# Altium integrated library Linear Technology Power Management Switching Regulator LTC1174-LTC3901.IntLib: 2647 symbols (part 3 of 364)
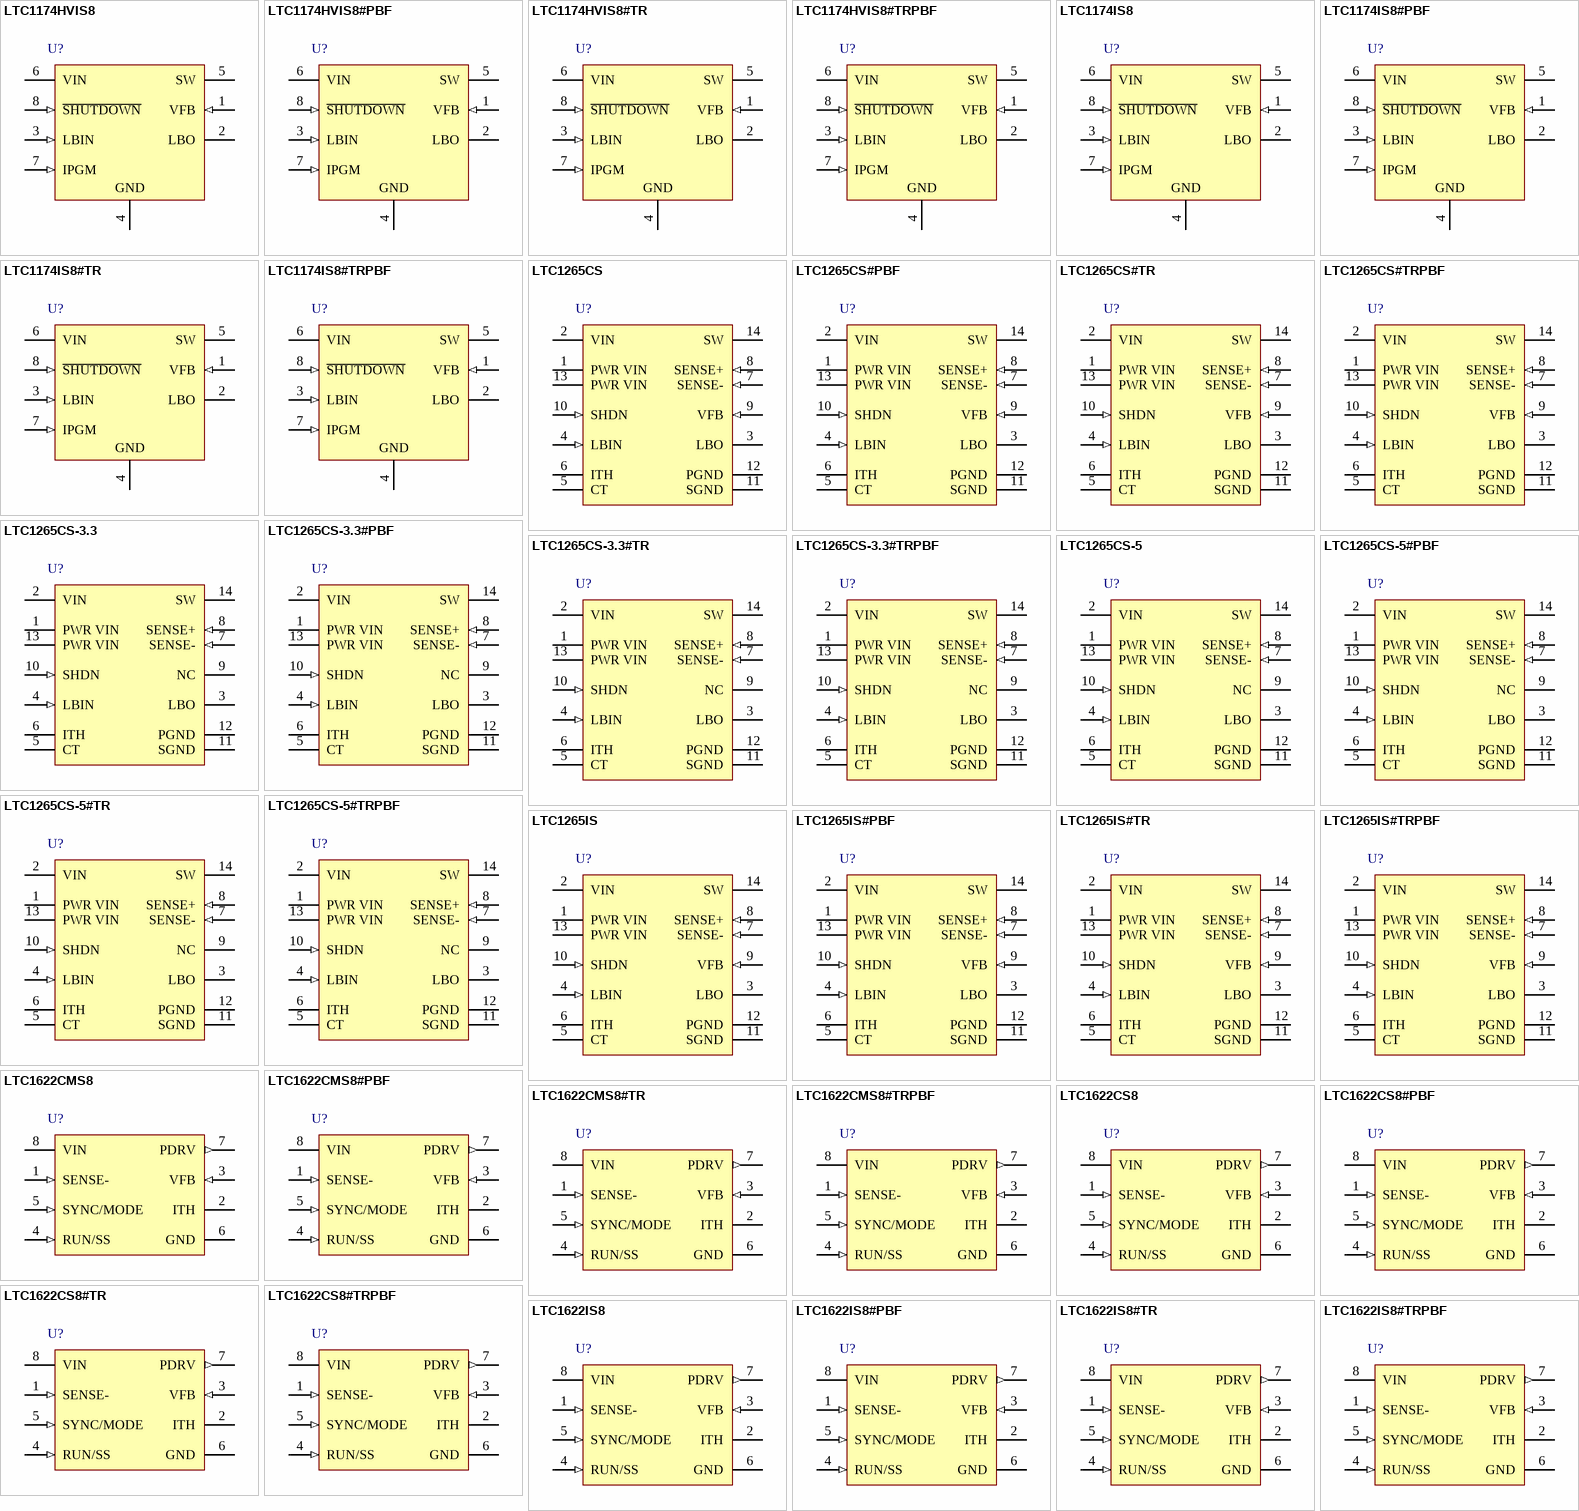
[diagram p117: symbols LTC1174HVIS8 to LTC1622IS8#TRPBF]

## LTC1174HVIS8
designator U?
High Efficiency Step-Down and Inverting DC/DC Converter, 8-pin SOIC (S8-8), -40 to 85 degC; Manufacturer: Linear Technology; PartNumber: LTC1174HVIS8; Number of Outputs: 1; DatasheetVersion: Rev. E; PackageVersion: Rev. G, 03/2012; PackageReference: S8-8; PackageDescription: 8-Pin Plastic Small Outline (Narrow .150 Inch), Body 4.9 x 3.9 mm, Pitch 1.27 mm; Supplier 1: Digi-Key; Supplier Part Number 1: LTC1174HVIS8-ND; Supplier 2: Newark; Supplier Part Number 2: 55M9576; RoHS: FALSE; Mounting Technology: Surface Mount; ComponentLink1Description: Manufacturer URL; ComponentLink1URL: http://www.linear.com/; ComponentLink2Description: Datasheet; ComponentLink2URL: http://cds.linear.com/docs/en/datasheet/1174fe.pdf; ComponentLink3Description: Package Specification; ComponentLink3URL: http://cds.linear.com/docs/en/packaging/05081610_G_SO8.pdf
footprint LT-S8-8_N (SOIC, 8-Leads, Body 5x4mm, Pitch 1.27mm, IPC Medium Density)
footprint LT-S8-8_L (SOIC, 8-Leads, Body 5x4mm, Pitch 1.27mm, IPC High Density)
footprint LT-S8-8_M (SOIC, 8-Leads, Body 5x4mm, Pitch 1.27mm, IPC Low Density)
pins: 1 VFB (in) "For the LTC1174, this pin connects to the main voltage comparator's input.", 2 LBO (oc) "Open Drain of an N-Channel Pull-Down. This pin will sink current when Pin 3 (LBIN) goes below 1.25V. During shutdown the state of this pin is indeterminate.", 3 LBIN (in) "The ??Input of the Low-Battery Voltage Comparator. The ??input is connected to a reference voltage of 1.25V.", 4 GND (power) "Ground Pin.", 5 SW (power) "Drain of the P-Channel MOSFET Switch. Cathode of Schottky diode must be closely connected to this pin.", 6 VIN (power) "Input Supply Voltage. It must be decoupled close to ground Pin 4.", 7 IPGM (in) "Selects the Current Limit of the P-Channel Switch. With IPGM = VIN, the current trip point is 600mA and with IPGM = 0V, the current trip value is reduced to 340mA.", 8 ~{SHUTDOWN} (in) "Pulling this pin to ground keeps the internal switch off and puts the LTC1174 in micropower shutdown."

## LTC1174HVIS8#PBF
designator U?
High Efficiency Step-Down and Inverting DC/DC Converter, 8-pin SOIC (S8-8), -40 to 85 degC, Pb-Free; Manufacturer: Linear Technology; PartNumber: LTC1174HVIS8#PBF; Number of Outputs: 1; DatasheetVersion: Rev. E; PackageVersion: Rev. G, 03/2012; PackageReference: S8-8; PackageDescription: 8-Pin Plastic Small Outline (Narrow .150 Inch), Body 4.9 x 3.9 mm, Pitch 1.27 mm; Supplier 1: Digi-Key; Supplier Part Number 1: LTC1174HVIS8#PBF-ND; Supplier 2: Farnell; Supplier Part Number 2: 2294976; Supplier 3: Newark; Supplier Part Number 3: 55M9577; RoHS: TRUE; Mounting Technology: Surface Mount; ComponentLink1Description: Manufacturer URL; ComponentLink1URL: http://www.linear.com/; ComponentLink2Description: Datasheet; ComponentLink2URL: http://cds.linear.com/docs/en/datasheet/1174fe.pdf; ComponentLink3Description: Package Specification; ComponentLink3URL: http://cds.linear.com/docs/en/packaging/05081610_G_SO8.pdf
footprint LT-S8-8_N (SOIC, 8-Leads, Body 5x4mm, Pitch 1.27mm, IPC Medium Density)
footprint LT-S8-8_L (SOIC, 8-Leads, Body 5x4mm, Pitch 1.27mm, IPC High Density)
footprint LT-S8-8_M (SOIC, 8-Leads, Body 5x4mm, Pitch 1.27mm, IPC Low Density)
pins: 1 VFB (in) "For the LTC1174, this pin connects to the main voltage comparator's input.", 2 LBO (oc) "Open Drain of an N-Channel Pull-Down. This pin will sink current when Pin 3 (LBIN) goes below 1.25V. During shutdown the state of this pin is indeterminate.", 3 LBIN (in) "The ??Input of the Low-Battery Voltage Comparator. The ??input is connected to a reference voltage of 1.25V.", 4 GND (power) "Ground Pin.", 5 SW (power) "Drain of the P-Channel MOSFET Switch. Cathode of Schottky diode must be closely connected to this pin.", 6 VIN (power) "Input Supply Voltage. It must be decoupled close to ground Pin 4.", 7 IPGM (in) "Selects the Current Limit of the P-Channel Switch. With IPGM = VIN, the current trip point is 600mA and with IPGM = 0V, the current trip value is reduced to 340mA.", 8 ~{SHUTDOWN} (in) "Pulling this pin to ground keeps the internal switch off and puts the LTC1174 in micropower shutdown."

## LTC1174HVIS8#TR
designator U?
High Efficiency Step-Down and Inverting DC/DC Converter, 8-pin SOIC (S8-8), -40 to 85 degC, Tape and Reel; Manufacturer: Linear Technology; PartNumber: LTC1174HVIS8#TR; Number of Outputs: 1; DatasheetVersion: Rev. E; PackageVersion: Rev. G, 03/2012; PackageReference: S8-8; PackageDescription: 8-Pin Plastic Small Outline (Narrow .150 Inch), Body 4.9 x 3.9 mm, Pitch 1.27 mm; Supplier 1: Digi-Key; Supplier Part Number 1: LTC1174HVIS8#TR-ND; Packing: Tape and Reel; RoHS: FALSE; Mounting Technology: Surface Mount; ComponentLink1Description: Manufacturer URL; ComponentLink1URL: http://www.linear.com/; ComponentLink2Description: Datasheet; ComponentLink2URL: http://cds.linear.com/docs/en/datasheet/1174fe.pdf; ComponentLink3Description: Package Specification; ComponentLink3URL: http://cds.linear.com/docs/en/packaging/05081610_G_SO8.pdf
footprint LT-S8-8_N (SOIC, 8-Leads, Body 5x4mm, Pitch 1.27mm, IPC Medium Density)
footprint LT-S8-8_L (SOIC, 8-Leads, Body 5x4mm, Pitch 1.27mm, IPC High Density)
footprint LT-S8-8_M (SOIC, 8-Leads, Body 5x4mm, Pitch 1.27mm, IPC Low Density)
pins: 1 VFB (in) "For the LTC1174, this pin connects to the main voltage comparator's input.", 2 LBO (oc) "Open Drain of an N-Channel Pull-Down. This pin will sink current when Pin 3 (LBIN) goes below 1.25V. During shutdown the state of this pin is indeterminate.", 3 LBIN (in) "The ??Input of the Low-Battery Voltage Comparator. The ??input is connected to a reference voltage of 1.25V.", 4 GND (power) "Ground Pin.", 5 SW (power) "Drain of the P-Channel MOSFET Switch. Cathode of Schottky diode must be closely connected to this pin.", 6 VIN (power) "Input Supply Voltage. It must be decoupled close to ground Pin 4.", 7 IPGM (in) "Selects the Current Limit of the P-Channel Switch. With IPGM = VIN, the current trip point is 600mA and with IPGM = 0V, the current trip value is reduced to 340mA.", 8 ~{SHUTDOWN} (in) "Pulling this pin to ground keeps the internal switch off and puts the LTC1174 in micropower shutdown."

## LTC1174HVIS8#TRPBF
designator U?
High Efficiency Step-Down and Inverting DC/DC Converter, 8-pin SOIC (S8-8), -40 to 85 degC, Pb-Free, Tape and Reel; Manufacturer: Linear Technology; PartNumber: LTC1174HVIS8#TRPBF; Number of Outputs: 1; DatasheetVersion: Rev. E; PackageVersion: Rev. G, 03/2012; PackageReference: S8-8; PackageDescription: 8-Pin Plastic Small Outline (Narrow .150 Inch), Body 4.9 x 3.9 mm, Pitch 1.27 mm; Supplier 1: Digi-Key; Supplier Part Number 1: LTC1174HVIS8#TRPBF-ND; Packing: Tape and Reel; RoHS: TRUE; Mounting Technology: Surface Mount; ComponentLink1Description: Manufacturer URL; ComponentLink1URL: http://www.linear.com/; ComponentLink2Description: Datasheet; ComponentLink2URL: http://cds.linear.com/docs/en/datasheet/1174fe.pdf; ComponentLink3Description: Package Specification; ComponentLink3URL: http://cds.linear.com/docs/en/packaging/05081610_G_SO8.pdf
footprint LT-S8-8_N (SOIC, 8-Leads, Body 5x4mm, Pitch 1.27mm, IPC Medium Density)
footprint LT-S8-8_L (SOIC, 8-Leads, Body 5x4mm, Pitch 1.27mm, IPC High Density)
footprint LT-S8-8_M (SOIC, 8-Leads, Body 5x4mm, Pitch 1.27mm, IPC Low Density)
pins: 1 VFB (in) "For the LTC1174, this pin connects to the main voltage comparator's input.", 2 LBO (oc) "Open Drain of an N-Channel Pull-Down. This pin will sink current when Pin 3 (LBIN) goes below 1.25V. During shutdown the state of this pin is indeterminate.", 3 LBIN (in) "The ??Input of the Low-Battery Voltage Comparator. The ??input is connected to a reference voltage of 1.25V.", 4 GND (power) "Ground Pin.", 5 SW (power) "Drain of the P-Channel MOSFET Switch. Cathode of Schottky diode must be closely connected to this pin.", 6 VIN (power) "Input Supply Voltage. It must be decoupled close to ground Pin 4.", 7 IPGM (in) "Selects the Current Limit of the P-Channel Switch. With IPGM = VIN, the current trip point is 600mA and with IPGM = 0V, the current trip value is reduced to 340mA.", 8 ~{SHUTDOWN} (in) "Pulling this pin to ground keeps the internal switch off and puts the LTC1174 in micropower shutdown."

## LTC1174IS8
designator U?
High Efficiency Step-Down and Inverting DC/DC Converter, 8-pin SOIC (S8-8), -40 to 85 degC; Manufacturer: Linear Technology; PartNumber: LTC1174IS8; Number of Outputs: 1; DatasheetVersion: Rev. E; PackageVersion: Rev. G, 03/2012; PackageReference: S8-8; PackageDescription: 8-Pin Plastic Small Outline (Narrow .150 Inch), Body 4.9 x 3.9 mm, Pitch 1.27 mm; Supplier 1: Digi-Key; Supplier Part Number 1: LTC1174IS8-ND; RoHS: FALSE; Mounting Technology: Surface Mount; ComponentLink1Description: Manufacturer URL; ComponentLink1URL: http://www.linear.com/; ComponentLink2Description: Datasheet; ComponentLink2URL: http://cds.linear.com/docs/en/datasheet/1174fe.pdf; ComponentLink3Description: Package Specification; ComponentLink3URL: http://cds.linear.com/docs/en/packaging/05081610_G_SO8.pdf
footprint LT-S8-8_N (SOIC, 8-Leads, Body 5x4mm, Pitch 1.27mm, IPC Medium Density)
footprint LT-S8-8_L (SOIC, 8-Leads, Body 5x4mm, Pitch 1.27mm, IPC High Density)
footprint LT-S8-8_M (SOIC, 8-Leads, Body 5x4mm, Pitch 1.27mm, IPC Low Density)
pins: 1 VFB (in) "For the LTC1174, this pin connects to the main voltage comparator's input.", 2 LBO (oc) "Open Drain of an N-Channel Pull-Down. This pin will sink current when Pin 3 (LBIN) goes below 1.25V. During shutdown the state of this pin is indeterminate.", 3 LBIN (in) "The ??Input of the Low-Battery Voltage Comparator. The ??input is connected to a reference voltage of 1.25V.", 4 GND (power) "Ground Pin.", 5 SW (power) "Drain of the P-Channel MOSFET Switch. Cathode of Schottky diode must be closely connected to this pin.", 6 VIN (power) "Input Supply Voltage. It must be decoupled close to ground Pin 4.", 7 IPGM (in) "Selects the Current Limit of the P-Channel Switch. With IPGM = VIN, the current trip point is 600mA and with IPGM = 0V, the current trip value is reduced to 340mA.", 8 ~{SHUTDOWN} (in) "Pulling this pin to ground keeps the internal switch off and puts the LTC1174 in micropower shutdown."

## LTC1174IS8#PBF
designator U?
High Efficiency Step-Down and Inverting DC/DC Converter, 8-pin SOIC (S8-8), -40 to 85 degC, Pb-Free; Manufacturer: Linear Technology; PartNumber: LTC1174IS8#PBF; Number of Outputs: 1; DatasheetVersion: Rev. E; PackageVersion: Rev. G, 03/2012; PackageReference: S8-8; PackageDescription: 8-Pin Plastic Small Outline (Narrow .150 Inch), Body 4.9 x 3.9 mm, Pitch 1.27 mm; Supplier 1: Digi-Key; Supplier Part Number 1: LTC1174IS8#PBF-ND; Supplier 2: Newark; Supplier Part Number 2: 55M9583; RoHS: TRUE; Mounting Technology: Surface Mount; ComponentLink1Description: Manufacturer URL; ComponentLink1URL: http://www.linear.com/; ComponentLink2Description: Datasheet; ComponentLink2URL: http://cds.linear.com/docs/en/datasheet/1174fe.pdf; ComponentLink3Description: Package Specification; ComponentLink3URL: http://cds.linear.com/docs/en/packaging/05081610_G_SO8.pdf
footprint LT-S8-8_N (SOIC, 8-Leads, Body 5x4mm, Pitch 1.27mm, IPC Medium Density)
footprint LT-S8-8_L (SOIC, 8-Leads, Body 5x4mm, Pitch 1.27mm, IPC High Density)
footprint LT-S8-8_M (SOIC, 8-Leads, Body 5x4mm, Pitch 1.27mm, IPC Low Density)
pins: 1 VFB (in) "For the LTC1174, this pin connects to the main voltage comparator's input.", 2 LBO (oc) "Open Drain of an N-Channel Pull-Down. This pin will sink current when Pin 3 (LBIN) goes below 1.25V. During shutdown the state of this pin is indeterminate.", 3 LBIN (in) "The ??Input of the Low-Battery Voltage Comparator. The ??input is connected to a reference voltage of 1.25V.", 4 GND (power) "Ground Pin.", 5 SW (power) "Drain of the P-Channel MOSFET Switch. Cathode of Schottky diode must be closely connected to this pin.", 6 VIN (power) "Input Supply Voltage. It must be decoupled close to ground Pin 4.", 7 IPGM (in) "Selects the Current Limit of the P-Channel Switch. With IPGM = VIN, the current trip point is 600mA and with IPGM = 0V, the current trip value is reduced to 340mA.", 8 ~{SHUTDOWN} (in) "Pulling this pin to ground keeps the internal switch off and puts the LTC1174 in micropower shutdown."

## LTC1174IS8#TR
designator U?
High Efficiency Step-Down and Inverting DC/DC Converter, 8-pin SOIC (S8-8), -40 to 85 degC, Tape and Reel; Manufacturer: Linear Technology; PartNumber: LTC1174IS8#TR; Number of Outputs: 1; DatasheetVersion: Rev. E; PackageVersion: Rev. G, 03/2012; PackageReference: S8-8; PackageDescription: 8-Pin Plastic Small Outline (Narrow .150 Inch), Body 4.9 x 3.9 mm, Pitch 1.27 mm; Supplier 1: Digi-Key; Supplier Part Number 1: LTC1174IS8#TR-ND; Packing: Tape and Reel; RoHS: FALSE; Mounting Technology: Surface Mount; ComponentLink1Description: Manufacturer URL; ComponentLink1URL: http://www.linear.com/; ComponentLink2Description: Datasheet; ComponentLink2URL: http://cds.linear.com/docs/en/datasheet/1174fe.pdf; ComponentLink3Description: Package Specification; ComponentLink3URL: http://cds.linear.com/docs/en/packaging/05081610_G_SO8.pdf
footprint LT-S8-8_N (SOIC, 8-Leads, Body 5x4mm, Pitch 1.27mm, IPC Medium Density)
footprint LT-S8-8_L (SOIC, 8-Leads, Body 5x4mm, Pitch 1.27mm, IPC High Density)
footprint LT-S8-8_M (SOIC, 8-Leads, Body 5x4mm, Pitch 1.27mm, IPC Low Density)
pins: 1 VFB (in) "For the LTC1174, this pin connects to the main voltage comparator's input.", 2 LBO (oc) "Open Drain of an N-Channel Pull-Down. This pin will sink current when Pin 3 (LBIN) goes below 1.25V. During shutdown the state of this pin is indeterminate.", 3 LBIN (in) "The ??Input of the Low-Battery Voltage Comparator. The ??input is connected to a reference voltage of 1.25V.", 4 GND (power) "Ground Pin.", 5 SW (power) "Drain of the P-Channel MOSFET Switch. Cathode of Schottky diode must be closely connected to this pin.", 6 VIN (power) "Input Supply Voltage. It must be decoupled close to ground Pin 4.", 7 IPGM (in) "Selects the Current Limit of the P-Channel Switch. With IPGM = VIN, the current trip point is 600mA and with IPGM = 0V, the current trip value is reduced to 340mA.", 8 ~{SHUTDOWN} (in) "Pulling this pin to ground keeps the internal switch off and puts the LTC1174 in micropower shutdown."

## LTC1174IS8#TRPBF
designator U?
High Efficiency Step-Down and Inverting DC/DC Converter, 8-pin SOIC (S8-8), -40 to 85 degC, Pb-Free, Tape and Reel; Manufacturer: Linear Technology; PartNumber: LTC1174IS8#TRPBF; Number of Outputs: 1; DatasheetVersion: Rev. E; PackageVersion: Rev. G, 03/2012; PackageReference: S8-8; PackageDescription: 8-Pin Plastic Small Outline (Narrow .150 Inch), Body 4.9 x 3.9 mm, Pitch 1.27 mm; Supplier 1: Digi-Key; Supplier Part Number 1: LTC1174IS8#TRPBF-ND; Packing: Tape and Reel; RoHS: TRUE; Mounting Technology: Surface Mount; ComponentLink1Description: Manufacturer URL; ComponentLink1URL: http://www.linear.com/; ComponentLink2Description: Datasheet; ComponentLink2URL: http://cds.linear.com/docs/en/datasheet/1174fe.pdf; ComponentLink3Description: Package Specification; ComponentLink3URL: http://cds.linear.com/docs/en/packaging/05081610_G_SO8.pdf
footprint LT-S8-8_N (SOIC, 8-Leads, Body 5x4mm, Pitch 1.27mm, IPC Medium Density)
footprint LT-S8-8_L (SOIC, 8-Leads, Body 5x4mm, Pitch 1.27mm, IPC High Density)
footprint LT-S8-8_M (SOIC, 8-Leads, Body 5x4mm, Pitch 1.27mm, IPC Low Density)
pins: 1 VFB (in) "For the LTC1174, this pin connects to the main voltage comparator's input.", 2 LBO (oc) "Open Drain of an N-Channel Pull-Down. This pin will sink current when Pin 3 (LBIN) goes below 1.25V. During shutdown the state of this pin is indeterminate.", 3 LBIN (in) "The ??Input of the Low-Battery Voltage Comparator. The ??input is connected to a reference voltage of 1.25V.", 4 GND (power) "Ground Pin.", 5 SW (power) "Drain of the P-Channel MOSFET Switch. Cathode of Schottky diode must be closely connected to this pin.", 6 VIN (power) "Input Supply Voltage. It must be decoupled close to ground Pin 4.", 7 IPGM (in) "Selects the Current Limit of the P-Channel Switch. With IPGM = VIN, the current trip point is 600mA and with IPGM = 0V, the current trip value is reduced to 340mA.", 8 ~{SHUTDOWN} (in) "Pulling this pin to ground keeps the internal switch off and puts the LTC1174 in micropower shutdown."

## LTC1265CS
designator U?
1.2 A, High Efficiency Step-Down DC/DC Converter, 14-pin SOIC (S-14), 0 to 70 degC; Manufacturer: Linear Technology; PartNumber: LTC1265CS; Number of Outputs: 1; DatasheetVersion: Rev. B; PackageVersion: Rev. G, 03/2012; PackageReference: S-14; PackageDescription: 14-Pin Plastic Small Outline, Body 8.65 x 3.9 mm, Pitch 1.27 mm; Supplier 1: Digi-Key; Supplier Part Number 1: LTC1265CS-ND; RoHS: FALSE; Mounting Technology: Surface Mount; ComponentLink1Description: Manufacturer URL; ComponentLink1URL: http://www.linear.com/; ComponentLink2Description: Datasheet; ComponentLink2URL: http://cds.linear.com/docs/en/datasheet/126535fb.pdf; ComponentLink3Description: Package Specification; ComponentLink3URL: http://cds.linear.com/docs/en/packaging/05081610_G_S14.pdf
footprint LT-S-14_N (SOIC, 14-Leads, Body 8.7x4mm, Pitch 1.27mm, IPC Medium Density)
footprint LT-S-14_L (SOIC, 14-Leads, Body 8.7x4mm, Pitch 1.27mm, IPC High Density)
footprint LT-S-14_M (SOIC, 14-Leads, Body 8.7x4mm, Pitch 1.27mm, IPC Low Density)
pins: 1 PWR VIN (power) "Supply for the Power MOSFET and its Driver. Must decouple this pin properly to ground. Must always tie Pins 1 and 13 together.", 2 VIN (power) "Main Supply for All the Control Circuitry in the LTC1265.", 3 LBO (hiz) "Open-Drain Output of the Low-Battery Comparator. This pin will sink current when Pin 4 (LBIN) goes below 1.25V. During shutdown, this pin is high impedance.", 4 LBIN (in) "The (-) Input of the Low-Battery Comparator. The (+) input is connected to a reference voltage of 1.25V.", 5 CT "External capacitor CT from Pin 5 to ground sets the switch off time. The operating frequency is dependent on the input voltage and CT.", 6 ITH "Feedback Amplifier Decoupling Point. The current comparator threshold is proportional to Pin 6 voltage.", 7 SENSE- (in) "Connect to the (-) input of the current comparator. For LTC1265-3.3 and LTC1265-5, it also connects to an internal resistive divider which sets the output voltage.", 8 SENSE+ (in) "The (+) Pin to the Current Comparator. A built-in offset between Pins 7 and 8 in conjunction with RSENSE sets the current trip threshold.", 9 VFB (in) "For the LTC1265 adjustable version, this pin serves as the feedback pin from an external resistive divider used to set the output voltage. On the LTC1265-3.3 and LTC1265-5 versions, this pin is not used.", 10 SHDN (in) "Pulling this pin HIGH keeps the internal switch off and puts the LTC1265 in micropower shutdown. Do not float this pin.", 11 SGND (power) "Small-Signal Ground. Must be routed separately from other grounds to the (-) terminal of COUT.", 12 PGND (power) "Switch Driver Ground. Connects to the (-) terminal of CIN. Anode of the Schottky diode must be connected close to this pin.", 13 PWR VIN (power) "Supply for the Power MOSFET and its Driver. Must decouple this pin properly to ground. Must always tie Pins 1 and 13 together.", 14 SW (power) "Drain of the P-Channel MOSFET Switch. Cathode of the Schottky diode must be connected close to this pin."

## LTC1265CS#PBF
designator U?
1.2 A, High Efficiency Step-Down DC/DC Converter, 14-pin SOIC (S-14), 0 to 70 degC, Pb-Free; Manufacturer: Linear Technology; PartNumber: LTC1265CS#PBF; Number of Outputs: 1; DatasheetVersion: Rev. B; PackageVersion: Rev. G, 03/2012; PackageReference: S-14; PackageDescription: 14-Pin Plastic Small Outline, Body 8.65 x 3.9 mm, Pitch 1.27 mm; Supplier 1: Digi-Key; Supplier Part Number 1: LTC1265CS#PBF-ND; Supplier 2: Farnell; Supplier Part Number 2: 1136642; Supplier 3: Newark; Supplier Part Number 3: 55M9849; RoHS: TRUE; Mounting Technology: Surface Mount; ComponentLink1Description: Manufacturer URL; ComponentLink1URL: http://www.linear.com/; ComponentLink2Description: Datasheet; ComponentLink2URL: http://cds.linear.com/docs/en/datasheet/126535fb.pdf; ComponentLink3Description: Package Specification; ComponentLink3URL: http://cds.linear.com/docs/en/packaging/05081610_G_S14.pdf
footprint LT-S-14_N (SOIC, 14-Leads, Body 8.7x4mm, Pitch 1.27mm, IPC Medium Density)
footprint LT-S-14_L (SOIC, 14-Leads, Body 8.7x4mm, Pitch 1.27mm, IPC High Density)
footprint LT-S-14_M (SOIC, 14-Leads, Body 8.7x4mm, Pitch 1.27mm, IPC Low Density)
pins: 1 PWR VIN (power) "Supply for the Power MOSFET and its Driver. Must decouple this pin properly to ground. Must always tie Pins 1 and 13 together.", 2 VIN (power) "Main Supply for All the Control Circuitry in the LTC1265.", 3 LBO (hiz) "Open-Drain Output of the Low-Battery Comparator. This pin will sink current when Pin 4 (LBIN) goes below 1.25V. During shutdown, this pin is high impedance.", 4 LBIN (in) "The (-) Input of the Low-Battery Comparator. The (+) input is connected to a reference voltage of 1.25V.", 5 CT "External capacitor CT from Pin 5 to ground sets the switch off time. The operating frequency is dependent on the input voltage and CT.", 6 ITH "Feedback Amplifier Decoupling Point. The current comparator threshold is proportional to Pin 6 voltage.", 7 SENSE- (in) "Connect to the (-) input of the current comparator. For LTC1265-3.3 and LTC1265-5, it also connects to an internal resistive divider which sets the output voltage.", 8 SENSE+ (in) "The (+) Pin to the Current Comparator. A built-in offset between Pins 7 and 8 in conjunction with RSENSE sets the current trip threshold.", 9 VFB (in) "For the LTC1265 adjustable version, this pin serves as the feedback pin from an external resistive divider used to set the output voltage. On the LTC1265-3.3 and LTC1265-5 versions, this pin is not used.", 10 SHDN (in) "Pulling this pin HIGH keeps the internal switch off and puts the LTC1265 in micropower shutdown. Do not float this pin.", 11 SGND (power) "Small-Signal Ground. Must be routed separately from other grounds to the (-) terminal of COUT.", 12 PGND (power) "Switch Driver Ground. Connects to the (-) terminal of CIN. Anode of the Schottky diode must be connected close to this pin.", 13 PWR VIN (power) "Supply for the Power MOSFET and its Driver. Must decouple this pin properly to ground. Must always tie Pins 1 and 13 together.", 14 SW (power) "Drain of the P-Channel MOSFET Switch. Cathode of the Schottky diode must be connected close to this pin."

## LTC1265CS#TR
designator U?
1.2 A, High Efficiency Step-Down DC/DC Converter, 14-pin SOIC (S-14), 0 to 70 degC, Tape and Reel; Manufacturer: Linear Technology; PartNumber: LTC1265CS#TR; Number of Outputs: 1; DatasheetVersion: Rev. B; PackageVersion: Rev. G, 03/2012; PackageReference: S-14; PackageDescription: 14-Pin Plastic Small Outline, Body 8.65 x 3.9 mm, Pitch 1.27 mm; Supplier 1: Digi-Key; Supplier Part Number 1: LTC1265CS#TR-ND; Packing: Tape and Reel; RoHS: FALSE; Mounting Technology: Surface Mount; ComponentLink1Description: Manufacturer URL; ComponentLink1URL: http://www.linear.com/; ComponentLink2Description: Datasheet; ComponentLink2URL: http://cds.linear.com/docs/en/datasheet/126535fb.pdf; ComponentLink3Description: Package Specification; ComponentLink3URL: http://cds.linear.com/docs/en/packaging/05081610_G_S14.pdf
footprint LT-S-14_N (SOIC, 14-Leads, Body 8.7x4mm, Pitch 1.27mm, IPC Medium Density)
footprint LT-S-14_L (SOIC, 14-Leads, Body 8.7x4mm, Pitch 1.27mm, IPC High Density)
footprint LT-S-14_M (SOIC, 14-Leads, Body 8.7x4mm, Pitch 1.27mm, IPC Low Density)
pins: 1 PWR VIN (power) "Supply for the Power MOSFET and its Driver. Must decouple this pin properly to ground. Must always tie Pins 1 and 13 together.", 2 VIN (power) "Main Supply for All the Control Circuitry in the LTC1265.", 3 LBO (hiz) "Open-Drain Output of the Low-Battery Comparator. This pin will sink current when Pin 4 (LBIN) goes below 1.25V. During shutdown, this pin is high impedance.", 4 LBIN (in) "The (-) Input of the Low-Battery Comparator. The (+) input is connected to a reference voltage of 1.25V.", 5 CT "External capacitor CT from Pin 5 to ground sets the switch off time. The operating frequency is dependent on the input voltage and CT.", 6 ITH "Feedback Amplifier Decoupling Point. The current comparator threshold is proportional to Pin 6 voltage.", 7 SENSE- (in) "Connect to the (-) input of the current comparator. For LTC1265-3.3 and LTC1265-5, it also connects to an internal resistive divider which sets the output voltage.", 8 SENSE+ (in) "The (+) Pin to the Current Comparator. A built-in offset between Pins 7 and 8 in conjunction with RSENSE sets the current trip threshold.", 9 VFB (in) "For the LTC1265 adjustable version, this pin serves as the feedback pin from an external resistive divider used to set the output voltage. On the LTC1265-3.3 and LTC1265-5 versions, this pin is not used.", 10 SHDN (in) "Pulling this pin HIGH keeps the internal switch off and puts the LTC1265 in micropower shutdown. Do not float this pin.", 11 SGND (power) "Small-Signal Ground. Must be routed separately from other grounds to the (-) terminal of COUT.", 12 PGND (power) "Switch Driver Ground. Connects to the (-) terminal of CIN. Anode of the Schottky diode must be connected close to this pin.", 13 PWR VIN (power) "Supply for the Power MOSFET and its Driver. Must decouple this pin properly to ground. Must always tie Pins 1 and 13 together.", 14 SW (power) "Drain of the P-Channel MOSFET Switch. Cathode of the Schottky diode must be connected close to this pin."

## LTC1265CS#TRPBF
designator U?
1.2 A, High Efficiency Step-Down DC/DC Converter, 14-pin SOIC (S-14), 0 to 70 degC, Pb-Free, Tape and Reel; Manufacturer: Linear Technology; PartNumber: LTC1265CS#TRPBF; Number of Outputs: 1; DatasheetVersion: Rev. B; PackageVersion: Rev. G, 03/2012; PackageReference: S-14; PackageDescription: 14-Pin Plastic Small Outline, Body 8.65 x 3.9 mm, Pitch 1.27 mm; Supplier 1: Digi-Key; Supplier Part Number 1: LTC1265CS#TRPBF-ND; Packing: Tape and Reel; RoHS: TRUE; Mounting Technology: Surface Mount; ComponentLink1Description: Manufacturer URL; ComponentLink1URL: http://www.linear.com/; ComponentLink2Description: Datasheet; ComponentLink2URL: http://cds.linear.com/docs/en/datasheet/126535fb.pdf; ComponentLink3Description: Package Specification; ComponentLink3URL: http://cds.linear.com/docs/en/packaging/05081610_G_S14.pdf
footprint LT-S-14_N (SOIC, 14-Leads, Body 8.7x4mm, Pitch 1.27mm, IPC Medium Density)
footprint LT-S-14_L (SOIC, 14-Leads, Body 8.7x4mm, Pitch 1.27mm, IPC High Density)
footprint LT-S-14_M (SOIC, 14-Leads, Body 8.7x4mm, Pitch 1.27mm, IPC Low Density)
pins: 1 PWR VIN (power) "Supply for the Power MOSFET and its Driver. Must decouple this pin properly to ground. Must always tie Pins 1 and 13 together.", 2 VIN (power) "Main Supply for All the Control Circuitry in the LTC1265.", 3 LBO (hiz) "Open-Drain Output of the Low-Battery Comparator. This pin will sink current when Pin 4 (LBIN) goes below 1.25V. During shutdown, this pin is high impedance.", 4 LBIN (in) "The (-) Input of the Low-Battery Comparator. The (+) input is connected to a reference voltage of 1.25V.", 5 CT "External capacitor CT from Pin 5 to ground sets the switch off time. The operating frequency is dependent on the input voltage and CT.", 6 ITH "Feedback Amplifier Decoupling Point. The current comparator threshold is proportional to Pin 6 voltage.", 7 SENSE- (in) "Connect to the (-) input of the current comparator. For LTC1265-3.3 and LTC1265-5, it also connects to an internal resistive divider which sets the output voltage.", 8 SENSE+ (in) "The (+) Pin to the Current Comparator. A built-in offset between Pins 7 and 8 in conjunction with RSENSE sets the current trip threshold.", 9 VFB (in) "For the LTC1265 adjustable version, this pin serves as the feedback pin from an external resistive divider used to set the output voltage. On the LTC1265-3.3 and LTC1265-5 versions, this pin is not used.", 10 SHDN (in) "Pulling this pin HIGH keeps the internal switch off and puts the LTC1265 in micropower shutdown. Do not float this pin.", 11 SGND (power) "Small-Signal Ground. Must be routed separately from other grounds to the (-) terminal of COUT.", 12 PGND (power) "Switch Driver Ground. Connects to the (-) terminal of CIN. Anode of the Schottky diode must be connected close to this pin.", 13 PWR VIN (power) "Supply for the Power MOSFET and its Driver. Must decouple this pin properly to ground. Must always tie Pins 1 and 13 together.", 14 SW (power) "Drain of the P-Channel MOSFET Switch. Cathode of the Schottky diode must be connected close to this pin."

## LTC1265CS-3.3
designator U?
1.2 A, High Efficiency Step-Down DC/DC Converter, 14-pin SOIC (S-14), 0 to 70 degC; Manufacturer: Linear Technology; PartNumber: LTC1265CS-3.3; Number of Outputs: 1; DatasheetVersion: Rev. B; PackageVersion: Rev. G, 03/2012; PackageReference: S-14; PackageDescription: 14-Pin Plastic Small Outline, Body 8.65 x 3.9 mm, Pitch 1.27 mm; Supplier 1: Digi-Key; Supplier Part Number 1: LTC1265CS-3.3-ND; RoHS: FALSE; Mounting Technology: Surface Mount; ComponentLink1Description: Manufacturer URL; ComponentLink1URL: http://www.linear.com/; ComponentLink2Description: Datasheet; ComponentLink2URL: http://cds.linear.com/docs/en/datasheet/126535fb.pdf; ComponentLink3Description: Package Specification; ComponentLink3URL: http://cds.linear.com/docs/en/packaging/05081610_G_S14.pdf
footprint LT-S-14_N (SOIC, 14-Leads, Body 8.7x4mm, Pitch 1.27mm, IPC Medium Density)
footprint LT-S-14_L (SOIC, 14-Leads, Body 8.7x4mm, Pitch 1.27mm, IPC High Density)
footprint LT-S-14_M (SOIC, 14-Leads, Body 8.7x4mm, Pitch 1.27mm, IPC Low Density)
pins: 1 PWR VIN (power) "Supply for the Power MOSFET and its Driver. Must decouple this pin properly to ground. Must always tie Pins 1 and 13 together.", 2 VIN (power) "Main Supply for All the Control Circuitry in the LTC1265.", 3 LBO (hiz) "Open-Drain Output of the Low-Battery Comparator. This pin will sink current when Pin 4 (LBIN) goes below 1.25V. During shutdown, this pin is high impedance.", 4 LBIN (in) "The (-) Input of the Low-Battery Comparator. The (+) input is connected to a reference voltage of 1.25V.", 5 CT "External capacitor CT from Pin 5 to ground sets the switch off time. The operating frequency is dependent on the input voltage and CT.", 6 ITH "Feedback Amplifier Decoupling Point. The current comparator threshold is proportional to Pin 6 voltage.", 7 SENSE- (in) "Connect to the (-) input of the current comparator. For LTC1265-3.3 and LTC1265-5, it also connects to an internal resistive divider which sets the output voltage.", 8 SENSE+ (in) "The (+) Pin to the Current Comparator. A built-in offset between Pins 7 and 8 in conjunction with RSENSE sets the current trip threshold.", 9 NC "For the LTC1265 adjustable version, this pin serves as the feedback pin from an external resistive divider used to set the output voltage. On the LTC1265-3.3 and LTC1265-5 versions, this pin is not used.", 10 SHDN (in) "Pulling this pin HIGH keeps the internal switch off and puts the LTC1265 in micropower shutdown. Do not float this pin.", 11 SGND (power) "Small-Signal Ground. Must be routed separately from other grounds to the (-) terminal of COUT.", 12 PGND (power) "Switch Driver Ground. Connects to the (-) terminal of CIN. Anode of the Schottky diode must be connected close to this pin.", 13 PWR VIN (power) "Supply for the Power MOSFET and its Driver. Must decouple this pin properly to ground. Must always tie Pins 1 and 13 together.", 14 SW (power) "Drain of the P-Channel MOSFET Switch. Cathode of the Schottky diode must be connected close to this pin."

## LTC1265CS-3.3#PBF
designator U?
1.2 A, High Efficiency Step-Down DC/DC Converter, 14-pin SOIC (S-14), 0 to 70 degC, Pb-Free; Manufacturer: Linear Technology; PartNumber: LTC1265CS-3.3#PBF; Number of Outputs: 1; DatasheetVersion: Rev. B; PackageVersion: Rev. G, 03/2012; PackageReference: S-14; PackageDescription: 14-Pin Plastic Small Outline, Body 8.65 x 3.9 mm, Pitch 1.27 mm; Supplier 1: Digi-Key; Supplier Part Number 1: LTC1265CS-3.3#PBF-ND; Supplier 2: Farnell; Supplier Part Number 2: 1273850; Supplier 3: Newark; Supplier Part Number 3: 55M9842; RoHS: TRUE; Mounting Technology: Surface Mount; ComponentLink1Description: Manufacturer URL; ComponentLink1URL: http://www.linear.com/; ComponentLink2Description: Datasheet; ComponentLink2URL: http://cds.linear.com/docs/en/datasheet/126535fb.pdf; ComponentLink3Description: Package Specification; ComponentLink3URL: http://cds.linear.com/docs/en/packaging/05081610_G_S14.pdf
footprint LT-S-14_N (SOIC, 14-Leads, Body 8.7x4mm, Pitch 1.27mm, IPC Medium Density)
footprint LT-S-14_L (SOIC, 14-Leads, Body 8.7x4mm, Pitch 1.27mm, IPC High Density)
footprint LT-S-14_M (SOIC, 14-Leads, Body 8.7x4mm, Pitch 1.27mm, IPC Low Density)
pins: 1 PWR VIN (power) "Supply for the Power MOSFET and its Driver. Must decouple this pin properly to ground. Must always tie Pins 1 and 13 together.", 2 VIN (power) "Main Supply for All the Control Circuitry in the LTC1265.", 3 LBO (hiz) "Open-Drain Output of the Low-Battery Comparator. This pin will sink current when Pin 4 (LBIN) goes below 1.25V. During shutdown, this pin is high impedance.", 4 LBIN (in) "The (-) Input of the Low-Battery Comparator. The (+) input is connected to a reference voltage of 1.25V.", 5 CT "External capacitor CT from Pin 5 to ground sets the switch off time. The operating frequency is dependent on the input voltage and CT.", 6 ITH "Feedback Amplifier Decoupling Point. The current comparator threshold is proportional to Pin 6 voltage.", 7 SENSE- (in) "Connect to the (-) input of the current comparator. For LTC1265-3.3 and LTC1265-5, it also connects to an internal resistive divider which sets the output voltage.", 8 SENSE+ (in) "The (+) Pin to the Current Comparator. A built-in offset between Pins 7 and 8 in conjunction with RSENSE sets the current trip threshold.", 9 NC "For the LTC1265 adjustable version, this pin serves as the feedback pin from an external resistive divider used to set the output voltage. On the LTC1265-3.3 and LTC1265-5 versions, this pin is not used.", 10 SHDN (in) "Pulling this pin HIGH keeps the internal switch off and puts the LTC1265 in micropower shutdown. Do not float this pin.", 11 SGND (power) "Small-Signal Ground. Must be routed separately from other grounds to the (-) terminal of COUT.", 12 PGND (power) "Switch Driver Ground. Connects to the (-) terminal of CIN. Anode of the Schottky diode must be connected close to this pin.", 13 PWR VIN (power) "Supply for the Power MOSFET and its Driver. Must decouple this pin properly to ground. Must always tie Pins 1 and 13 together.", 14 SW (power) "Drain of the P-Channel MOSFET Switch. Cathode of the Schottky diode must be connected close to this pin."

## LTC1265CS-3.3#TR
designator U?
1.2 A, High Efficiency Step-Down DC/DC Converter, 14-pin SOIC (S-14), 0 to 70 degC, Tape and Reel; Manufacturer: Linear Technology; PartNumber: LTC1265CS-3.3#TR; Number of Outputs: 1; DatasheetVersion: Rev. B; PackageVersion: Rev. G, 03/2012; PackageReference: S-14; PackageDescription: 14-Pin Plastic Small Outline, Body 8.65 x 3.9 mm, Pitch 1.27 mm; Supplier 1: Digi-Key; Supplier Part Number 1: LTC1265CS-3.3#TR-ND; Packing: Tape and Reel; RoHS: FALSE; Mounting Technology: Surface Mount; ComponentLink1Description: Manufacturer URL; ComponentLink1URL: http://www.linear.com/; ComponentLink2Description: Datasheet; ComponentLink2URL: http://cds.linear.com/docs/en/datasheet/126535fb.pdf; ComponentLink3Description: Package Specification; ComponentLink3URL: http://cds.linear.com/docs/en/packaging/05081610_G_S14.pdf
footprint LT-S-14_N (SOIC, 14-Leads, Body 8.7x4mm, Pitch 1.27mm, IPC Medium Density)
footprint LT-S-14_L (SOIC, 14-Leads, Body 8.7x4mm, Pitch 1.27mm, IPC High Density)
footprint LT-S-14_M (SOIC, 14-Leads, Body 8.7x4mm, Pitch 1.27mm, IPC Low Density)
pins: 1 PWR VIN (power) "Supply for the Power MOSFET and its Driver. Must decouple this pin properly to ground. Must always tie Pins 1 and 13 together.", 2 VIN (power) "Main Supply for All the Control Circuitry in the LTC1265.", 3 LBO (hiz) "Open-Drain Output of the Low-Battery Comparator. This pin will sink current when Pin 4 (LBIN) goes below 1.25V. During shutdown, this pin is high impedance.", 4 LBIN (in) "The (-) Input of the Low-Battery Comparator. The (+) input is connected to a reference voltage of 1.25V.", 5 CT "External capacitor CT from Pin 5 to ground sets the switch off time. The operating frequency is dependent on the input voltage and CT.", 6 ITH "Feedback Amplifier Decoupling Point. The current comparator threshold is proportional to Pin 6 voltage.", 7 SENSE- (in) "Connect to the (-) input of the current comparator. For LTC1265-3.3 and LTC1265-5, it also connects to an internal resistive divider which sets the output voltage.", 8 SENSE+ (in) "The (+) Pin to the Current Comparator. A built-in offset between Pins 7 and 8 in conjunction with RSENSE sets the current trip threshold.", 9 NC "For the LTC1265 adjustable version, this pin serves as the feedback pin from an external resistive divider used to set the output voltage. On the LTC1265-3.3 and LTC1265-5 versions, this pin is not used.", 10 SHDN (in) "Pulling this pin HIGH keeps the internal switch off and puts the LTC1265 in micropower shutdown. Do not float this pin.", 11 SGND (power) "Small-Signal Ground. Must be routed separately from other grounds to the (-) terminal of COUT.", 12 PGND (power) "Switch Driver Ground. Connects to the (-) terminal of CIN. Anode of the Schottky diode must be connected close to this pin.", 13 PWR VIN (power) "Supply for the Power MOSFET and its Driver. Must decouple this pin properly to ground. Must always tie Pins 1 and 13 together.", 14 SW (power) "Drain of the P-Channel MOSFET Switch. Cathode of the Schottky diode must be connected close to this pin."

## LTC1265CS-3.3#TRPBF
designator U?
1.2 A, High Efficiency Step-Down DC/DC Converter, 14-pin SOIC (S-14), 0 to 70 degC, Pb-Free, Tape and Reel; Manufacturer: Linear Technology; PartNumber: LTC1265CS-3.3#TRPBF; Number of Outputs: 1; DatasheetVersion: Rev. B; PackageVersion: Rev. G, 03/2012; PackageReference: S-14; PackageDescription: 14-Pin Plastic Small Outline, Body 8.65 x 3.9 mm, Pitch 1.27 mm; Supplier 1: Digi-Key; Supplier Part Number 1: LTC1265CS-3.3#TRPBF-ND; Packing: Tape and Reel; RoHS: TRUE; Mounting Technology: Surface Mount; ComponentLink1Description: Manufacturer URL; ComponentLink1URL: http://www.linear.com/; ComponentLink2Description: Datasheet; ComponentLink2URL: http://cds.linear.com/docs/en/datasheet/126535fb.pdf; ComponentLink3Description: Package Specification; ComponentLink3URL: http://cds.linear.com/docs/en/packaging/05081610_G_S14.pdf
footprint LT-S-14_N (SOIC, 14-Leads, Body 8.7x4mm, Pitch 1.27mm, IPC Medium Density)
footprint LT-S-14_L (SOIC, 14-Leads, Body 8.7x4mm, Pitch 1.27mm, IPC High Density)
footprint LT-S-14_M (SOIC, 14-Leads, Body 8.7x4mm, Pitch 1.27mm, IPC Low Density)
pins: 1 PWR VIN (power) "Supply for the Power MOSFET and its Driver. Must decouple this pin properly to ground. Must always tie Pins 1 and 13 together.", 2 VIN (power) "Main Supply for All the Control Circuitry in the LTC1265.", 3 LBO (hiz) "Open-Drain Output of the Low-Battery Comparator. This pin will sink current when Pin 4 (LBIN) goes below 1.25V. During shutdown, this pin is high impedance.", 4 LBIN (in) "The (-) Input of the Low-Battery Comparator. The (+) input is connected to a reference voltage of 1.25V.", 5 CT "External capacitor CT from Pin 5 to ground sets the switch off time. The operating frequency is dependent on the input voltage and CT.", 6 ITH "Feedback Amplifier Decoupling Point. The current comparator threshold is proportional to Pin 6 voltage.", 7 SENSE- (in) "Connect to the (-) input of the current comparator. For LTC1265-3.3 and LTC1265-5, it also connects to an internal resistive divider which sets the output voltage.", 8 SENSE+ (in) "The (+) Pin to the Current Comparator. A built-in offset between Pins 7 and 8 in conjunction with RSENSE sets the current trip threshold.", 9 NC "For the LTC1265 adjustable version, this pin serves as the feedback pin from an external resistive divider used to set the output voltage. On the LTC1265-3.3 and LTC1265-5 versions, this pin is not used.", 10 SHDN (in) "Pulling this pin HIGH keeps the internal switch off and puts the LTC1265 in micropower shutdown. Do not float this pin.", 11 SGND (power) "Small-Signal Ground. Must be routed separately from other grounds to the (-) terminal of COUT.", 12 PGND (power) "Switch Driver Ground. Connects to the (-) terminal of CIN. Anode of the Schottky diode must be connected close to this pin.", 13 PWR VIN (power) "Supply for the Power MOSFET and its Driver. Must decouple this pin properly to ground. Must always tie Pins 1 and 13 together.", 14 SW (power) "Drain of the P-Channel MOSFET Switch. Cathode of the Schottky diode must be connected close to this pin."

## LTC1265CS-5
designator U?
1.2 A, High Efficiency Step-Down DC/DC Converter, 14-pin SOIC (S-14), 0 to 70 degC; Manufacturer: Linear Technology; PartNumber: LTC1265CS-5; Number of Outputs: 1; DatasheetVersion: Rev. B; PackageVersion: Rev. G, 03/2012; PackageReference: S-14; PackageDescription: 14-Pin Plastic Small Outline, Body 8.65 x 3.9 mm, Pitch 1.27 mm; Supplier 1: Digi-Key; Supplier Part Number 1: LTC1265CS-5-ND; RoHS: FALSE; Mounting Technology: Surface Mount; ComponentLink1Description: Manufacturer URL; ComponentLink1URL: http://www.linear.com/; ComponentLink2Description: Datasheet; ComponentLink2URL: http://cds.linear.com/docs/en/datasheet/126535fb.pdf; ComponentLink3Description: Package Specification; ComponentLink3URL: http://cds.linear.com/docs/en/packaging/05081610_G_S14.pdf
footprint LT-S-14_N (SOIC, 14-Leads, Body 8.7x4mm, Pitch 1.27mm, IPC Medium Density)
footprint LT-S-14_L (SOIC, 14-Leads, Body 8.7x4mm, Pitch 1.27mm, IPC High Density)
footprint LT-S-14_M (SOIC, 14-Leads, Body 8.7x4mm, Pitch 1.27mm, IPC Low Density)
pins: 1 PWR VIN (power) "Supply for the Power MOSFET and its Driver. Must decouple this pin properly to ground. Must always tie Pins 1 and 13 together.", 2 VIN (power) "Main Supply for All the Control Circuitry in the LTC1265.", 3 LBO (hiz) "Open-Drain Output of the Low-Battery Comparator. This pin will sink current when Pin 4 (LBIN) goes below 1.25V. During shutdown, this pin is high impedance.", 4 LBIN (in) "The (-) Input of the Low-Battery Comparator. The (+) input is connected to a reference voltage of 1.25V.", 5 CT "External capacitor CT from Pin 5 to ground sets the switch off time. The operating frequency is dependent on the input voltage and CT.", 6 ITH "Feedback Amplifier Decoupling Point. The current comparator threshold is proportional to Pin 6 voltage.", 7 SENSE- (in) "Connect to the (-) input of the current comparator. For LTC1265-3.3 and LTC1265-5, it also connects to an internal resistive divider which sets the output voltage.", 8 SENSE+ (in) "The (+) Pin to the Current Comparator. A built-in offset between Pins 7 and 8 in conjunction with RSENSE sets the current trip threshold.", 9 NC "For the LTC1265 adjustable version, this pin serves as the feedback pin from an external resistive divider used to set the output voltage. On the LTC1265-3.3 and LTC1265-5 versions, this pin is not used.", 10 SHDN (in) "Pulling this pin HIGH keeps the internal switch off and puts the LTC1265 in micropower shutdown. Do not float this pin.", 11 SGND (power) "Small-Signal Ground. Must be routed separately from other grounds to the (-) terminal of COUT.", 12 PGND (power) "Switch Driver Ground. Connects to the (-) terminal of CIN. Anode of the Schottky diode must be connected close to this pin.", 13 PWR VIN (power) "Supply for the Power MOSFET and its Driver. Must decouple this pin properly to ground. Must always tie Pins 1 and 13 together.", 14 SW (power) "Drain of the P-Channel MOSFET Switch. Cathode of the Schottky diode must be connected close to this pin."

## LTC1265CS-5#PBF
designator U?
1.2 A, High Efficiency Step-Down DC/DC Converter, 14-pin SOIC (S-14), 0 to 70 degC, Pb-Free; Manufacturer: Linear Technology; PartNumber: LTC1265CS-5#PBF; Number of Outputs: 1; DatasheetVersion: Rev. B; PackageVersion: Rev. G, 03/2012; PackageReference: S-14; PackageDescription: 14-Pin Plastic Small Outline, Body 8.65 x 3.9 mm, Pitch 1.27 mm; Supplier 1: Digi-Key; Supplier Part Number 1: LTC1265CS-5#PBF-ND; Supplier 2: Farnell; Supplier Part Number 2: 1273852; Supplier 3: Newark; Supplier Part Number 3: 55M9846; RoHS: TRUE; Mounting Technology: Surface Mount; ComponentLink1Description: Manufacturer URL; ComponentLink1URL: http://www.linear.com/; ComponentLink2Description: Datasheet; ComponentLink2URL: http://cds.linear.com/docs/en/datasheet/126535fb.pdf; ComponentLink3Description: Package Specification; ComponentLink3URL: http://cds.linear.com/docs/en/packaging/05081610_G_S14.pdf
footprint LT-S-14_N (SOIC, 14-Leads, Body 8.7x4mm, Pitch 1.27mm, IPC Medium Density)
footprint LT-S-14_L (SOIC, 14-Leads, Body 8.7x4mm, Pitch 1.27mm, IPC High Density)
footprint LT-S-14_M (SOIC, 14-Leads, Body 8.7x4mm, Pitch 1.27mm, IPC Low Density)
pins: 1 PWR VIN (power) "Supply for the Power MOSFET and its Driver. Must decouple this pin properly to ground. Must always tie Pins 1 and 13 together.", 2 VIN (power) "Main Supply for All the Control Circuitry in the LTC1265.", 3 LBO (hiz) "Open-Drain Output of the Low-Battery Comparator. This pin will sink current when Pin 4 (LBIN) goes below 1.25V. During shutdown, this pin is high impedance.", 4 LBIN (in) "The (-) Input of the Low-Battery Comparator. The (+) input is connected to a reference voltage of 1.25V.", 5 CT "External capacitor CT from Pin 5 to ground sets the switch off time. The operating frequency is dependent on the input voltage and CT.", 6 ITH "Feedback Amplifier Decoupling Point. The current comparator threshold is proportional to Pin 6 voltage.", 7 SENSE- (in) "Connect to the (-) input of the current comparator. For LTC1265-3.3 and LTC1265-5, it also connects to an internal resistive divider which sets the output voltage.", 8 SENSE+ (in) "The (+) Pin to the Current Comparator. A built-in offset between Pins 7 and 8 in conjunction with RSENSE sets the current trip threshold.", 9 NC "For the LTC1265 adjustable version, this pin serves as the feedback pin from an external resistive divider used to set the output voltage. On the LTC1265-3.3 and LTC1265-5 versions, this pin is not used.", 10 SHDN (in) "Pulling this pin HIGH keeps the internal switch off and puts the LTC1265 in micropower shutdown. Do not float this pin.", 11 SGND (power) "Small-Signal Ground. Must be routed separately from other grounds to the (-) terminal of COUT.", 12 PGND (power) "Switch Driver Ground. Connects to the (-) terminal of CIN. Anode of the Schottky diode must be connected close to this pin.", 13 PWR VIN (power) "Supply for the Power MOSFET and its Driver. Must decouple this pin properly to ground. Must always tie Pins 1 and 13 together.", 14 SW (power) "Drain of the P-Channel MOSFET Switch. Cathode of the Schottky diode must be connected close to this pin."